# EAGLE library part MAX1811 (library aaaacustom)
Maxim MAX1811 USB li-ion battery charger http://www.ladyada.net/library/eagle
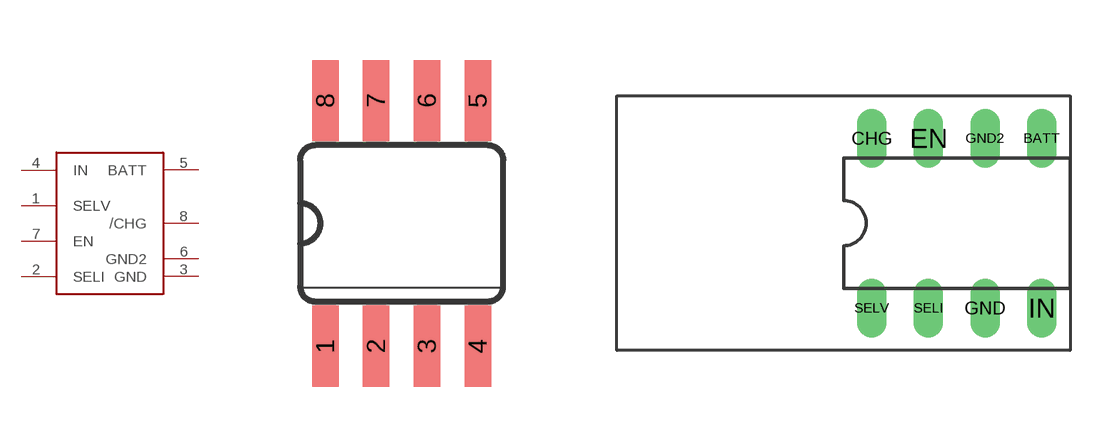
[diagram p1: symbol with the pads of SO08; footprints SO08, MAX1811]

Designator prefix -

## MAX1811SO8  [SO08]
1  SELV
2  SELI
3  GND
4  IN
5  BATT
6  GND2
7  EN
8  /CHG

## MAX1811  [MAX1811]
BATT  BATT
CHG  /CHG
EN  EN
GND  GND
GND2  GND2
IN  IN
SELI  SELI
SELV  SELV

## Footprint SO08 (pad centres in mm)
smd 0.66 x 2.032: 1 -1.905,-3.073; 2 -0.635,-3.073; 3 0.635,-3.073; 4 1.905,-3.073; 5 1.905,3.073; 6 0.635,3.073; 7 -0.635,3.073; 8 -1.905,3.073

## Footprint MAX1811 (pad centres in mm)
drill 0.813 long: BATT 8.89,6.985; CHG 1.27,6.985; EN 3.81,6.985; GND 6.35,-0.635; GND2 6.35,6.985; IN 8.89,-0.635; SELI 3.81,-0.635; SELV 1.27,-0.635